# EAGLE library part CC1100 (library chipcon-ti)
Single Chip Low Cost Low Power RF Transceiver 315/433/868 and 915 MHz ISM/SRD band systems
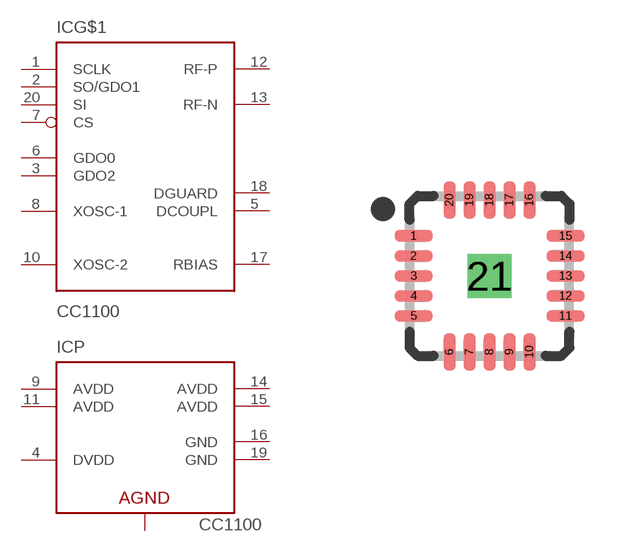
[diagram p1: symbol with the pads of QLP-20; footprint QLP-20]

Designator prefix IC; gates G$1=CC1100 P=CC1100-PWR

## CC1100  [QLP-20]
1  G$1:SCLK  in
2  G$1:SO/GDO1  out
3  G$1:GDO2  out
4  P:DVDD  pwr
5  G$1:DCOUPL  sup
6  G$1:GDO0  out
7  G$1:CS  in
8  G$1:XOSC-1  in
9  P:AVDD  pwr
10  G$1:XOSC-2  out
11  P:AVDD  pwr
12  G$1:RF-P
13  G$1:RF-N
14  P:AVDD  pwr
15  P:AVDD  pwr
16  P:GND  pwr
17  G$1:RBIAS
18  G$1:DGUARD  pwr
19  P:GND  pwr
20  G$1:SI  in
21  P:AGND  pwr

## Footprint QLP-20 (pad centres in mm)
QFN50P400X400X95-21N
smd 0.95 x 0.3: 1 -1.9,1; 2 -1.9,0.5; 3 -1.9,0; 4 -1.9,-0.5; 5 -1.9,-1; 11 1.9,-1; 12 1.9,-0.5; 13 1.9,0; 14 1.9,0.5; 15 1.9,1
smd 0.3 x 0.95: 6 -1,-1.9; 7 -0.5,-1.9; 8 0,-1.9; 9 0.5,-1.9; 10 1,-1.9; 16 1,1.9; 17 0.5,1.9; 18 0,1.9; 19 -0.5,1.9; 20 -1,1.9
drill 0.6 pad 1 square: 21 0,0